# Altium schematic symbol library LM317.SchLib: 1 symbol
Pins are listed as number, name and electrical type; pins without a type are passive.

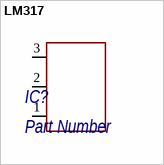
[diagram p0: symbol LM317]

## LM317
designator IC?, comment Part Number
footprint sot223 (SOT223, ld1117)
pins: 1 ADJ, 2 OUT, 3 IN